# Altium footprint library 简易牛角座.PcbLib: 22 footprints (part 2 of 2)
Each footprint in its own frame and in the unit in brackets; x right, y up, seen from the top. Pads: shape width x height; smd on the part's side, far side on the other; paste and mask are expansions set on the pad; w line width, h text height; cw(c..) or ccw(c..) is an arc to the next point about the centre after c.
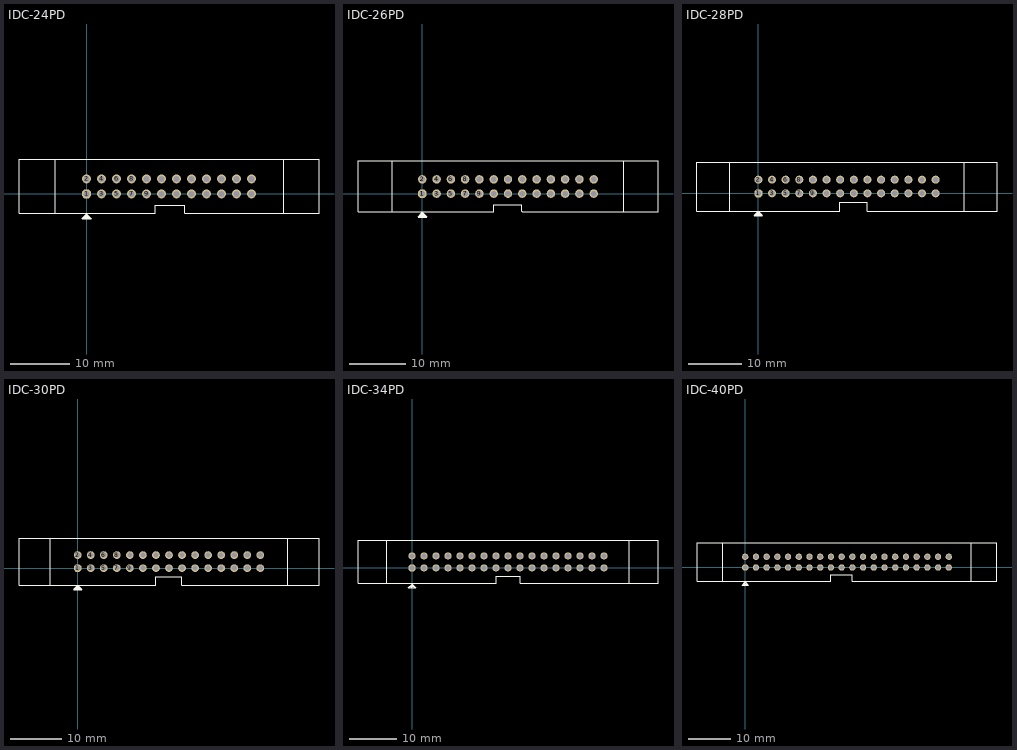
[diagram p1: the footprints below, top view; thin cyan lines are the x and y axes]

## IDC-24PD [mm]
pads (24):
  oct 1.5x1.5 hole 1: 1(0,0)
  round 1.5 hole 1: 2(0,2.54) 3(2.54,0) 4(2.54,2.54) 5(5.08,0) 6(5.08,2.54) 7(7.62,0) 8(7.62,2.54) 9(10.16,0) 10(10.16,2.54) 11(12.7,0) 12(12.7,2.54) 13(15.24,0) 14(15.24,2.54) 15(17.78,0) 16(17.78,2.54) 17(20.32,0) 18(20.32,2.54) 19(22.86,0) 20(22.86,2.54) 21(25.4,0) 22(25.4,2.54) 23(27.94,0) 24(27.94,2.54)
Top Overlay:
  lines w0.15: -5.004,-3.26 -11.43,-3.26 -11.43,5.84 -4.978,5.84 ; 11.623,-3.26 10.26,-3.26 -5.3,-3.26 ; 11.63,-3.267 11.63,-1.967 16.63,-1.967 16.63,-3.26 33.36,-3.26 33.36,5.84 -5.3,5.84 ; 32.918,5.84 39.37,5.84 39.37,-3.26 32.944,-3.26 ; -5.3,-3.26 -5.3,5.84 ; -5.3,-3.26 -5.3,5.84
  lines w0.254: -0.508,-4.191 -0.254,-3.937 ; -0.381,-3.81 0.127,-3.81 0.508,-4.191 ; 0,-3.683 0,-3.429 ; -0.254,-3.937 0,-4.191 0.508,-4.191 ; -0.254,-3.937 0.254,-3.937 0.508,-4.191 ; 0,-3.429 -0.762,-4.191 0.508,-4.191 ; 0,-3.429 0.762,-4.191 0.508,-4.191
Bottom Overlay:
  lines w0.6: -1.041,1.27 28.5,1.27 ; 1.27,-0.813 1.27,3.556 ; 3.81,-0.813 3.81,3.556 ; 6.35,-0.813 6.35,3.556 ; 8.89,-0.813 8.89,3.556 ; 11.43,-0.813 11.43,3.556 ; 13.97,-0.813 13.97,3.556 ; 16.51,-0.813 16.51,3.556 ; 19.05,-0.813 19.05,3.556 ; 21.59,-0.813 21.59,3.556 ; 24.13,-0.813 24.13,3.556 ; 26.67,-0.813 26.67,3.556

## IDC-26PD [mm]
pads (26):
  oct 1.5x1.5 hole 1: 1(0,0)
  round 1.5 hole 1: 2(0,2.54) 3(2.54,0) 4(2.54,2.54) 5(5.08,0) 6(5.08,2.54) 7(7.62,0) 8(7.62,2.54) 9(10.16,0) 10(10.16,2.54) 11(12.7,0) 12(12.7,2.54) 13(15.24,0) 14(15.24,2.54) 15(17.78,0) 16(17.78,2.54) 17(20.32,0) 18(20.32,2.54) 19(22.86,0) 20(22.86,2.54) 21(25.4,0) 22(25.4,2.54) 23(27.94,0) 24(27.94,2.54) 25(30.48,0) 26(30.48,2.54)
Top Overlay:
  lines w0.15: -5.004,-3.26 -11.43,-3.26 -11.43,5.84 -4.978,5.84 ; 35.458,5.84 41.91,5.84 41.91,-3.26 35.484,-3.26 ; -5.3,-3.26 -5.3,5.84 35.8,5.84 35.8,-3.26 17.8,-3.26 17.7,-3.16 17.7,-1.96 12.7,-1.96 12.7,-3.26 -5.3,-3.26
  lines w0.254: -0.508,-4.191 -0.254,-3.937 ; -0.381,-3.81 0.127,-3.81 0.508,-4.191 ; 0,-3.683 0,-3.429 ; -0.254,-3.937 0.254,-3.937 0.508,-4.191 ; -0.254,-3.937 0,-4.191 0.508,-4.191 ; 0,-3.429 0.762,-4.191 0.508,-4.191 ; 0,-3.429 -0.762,-4.191 0.508,-4.191
Bottom Overlay:
  lines w0.6: -1.041,1.27 31,1.27 ; 1.27,-0.813 1.27,3.556 ; 3.81,-0.813 3.81,3.556 ; 6.35,-0.813 6.35,3.556 ; 8.89,-0.813 8.89,3.556 ; 11.43,-0.813 11.43,3.556 ; 13.97,-0.813 13.97,3.556 ; 16.51,-0.813 16.51,3.556 ; 19.05,-0.813 19.05,3.556 ; 21.59,-0.813 21.59,3.556 ; 24.13,-0.813 24.13,3.556 ; 26.67,-0.813 26.67,3.556 ; 29.21,-0.813 29.21,3.556
3D body "IDC-26PD.STEP": height 23.35, standoff -3.15, extent -10.999,-3.039 41.601,5.461

## IDC-28PD [mm]
pads (28):
  oct 1.5x1.5 hole 1: 1(0,0)
  round 1.5 hole 1: 2(0,2.54) 3(2.54,0) 4(2.54,2.54) 5(5.08,0) 6(5.08,2.54) 7(7.62,0) 8(7.62,2.54) 9(10.16,0) 10(10.16,2.54) 11(12.7,0) 12(12.7,2.54) 13(15.24,0) 14(15.24,2.54) 15(17.78,0) 16(17.78,2.54) 17(20.32,0) 18(20.32,2.54) 19(22.86,0) 20(22.86,2.54) 21(25.4,0) 22(25.4,2.54) 23(27.94,0) 24(27.94,2.54) 25(30.48,0) 26(30.48,2.54) 27(33.02,0) 28(33.02,2.54)
Top Overlay:
  lines w0.15: -5.61,-3.3 15.17,-3.3 15.17,-1.69 20.27,-1.69 20.27,-3.3 42.49,-3.3 ; -5.3,-3.3 -5.3,5.8 15.22,5.8 ; -5.004,5.8 -11.43,5.8 -11.43,-3.3 -4.978,-3.3 ; 14.04,5.8 40.9,5.8 ; 37.998,-3.3 44.45,-3.3 44.45,5.8 38.024,5.8 ; 38.36,-3.3 38.36,5.8
  lines w0.254: -0.508,-4.191 -0.254,-3.937 ; -0.381,-3.81 0.127,-3.81 0.508,-4.191 ; 0,-3.683 0,-3.429 ; -0.254,-3.937 0,-4.191 0.508,-4.191 ; -0.254,-3.937 0.254,-3.937 0.508,-4.191 ; 0,-3.429 -0.762,-4.191 0.508,-4.191 ; 0,-3.429 0.762,-4.191 0.508,-4.191
Bottom Overlay:
  lines w0.6: -1.041,1.27 34.163,1.27 ; 1.27,-0.813 1.27,3.556 ; 3.81,-0.813 3.81,3.556 ; 6.35,-0.813 6.35,3.556 ; 8.89,-0.813 8.89,3.556 ; 11.43,-0.813 11.43,3.556 ; 13.97,-0.813 13.97,3.556 ; 16.51,-0.813 16.51,3.556 ; 19.05,-0.813 19.05,3.556 ; 21.59,-0.813 21.59,3.556 ; 24.13,-0.813 24.13,3.556 ; 26.67,-0.813 26.67,3.556 ; 29.21,-0.813 29.21,3.556 ; 31.75,-0.813 31.75,3.556

## IDC-30PD [mm]
pads (30):
  oct 1.5x1.5 hole 1: 1(0,0)
  round 1.5 hole 1: 2(0,2.54) 3(2.54,0) 4(2.54,2.54) 5(5.08,0) 6(5.08,2.54) 7(7.62,0) 8(7.62,2.54) 9(10.16,0) 10(10.16,2.54) 11(12.7,0) 12(12.7,2.54) 13(15.24,0) 14(15.24,2.54) 15(17.78,0) 16(17.78,2.54) 17(20.32,0) 18(20.32,2.54) 19(22.86,0) 20(22.86,2.54) 21(25.4,0) 22(25.4,2.54) 23(27.94,0) 24(27.94,2.54) 25(30.48,0) 26(30.48,2.54) 27(33.02,0) 28(33.02,2.54) 29(35.56,0) 30(35.56,2.54)
Top Overlay:
  lines w0.15: -5.61,-3.3 15.17,-3.3 15.17,-1.69 20.27,-1.69 20.27,-3.3 42.49,-3.3 ; -5.3,-3.3 -5.3,5.8 15.22,5.8 ; -5.004,5.8 -11.43,5.8 -11.43,-3.3 -4.978,-3.3 ; 14.04,5.8 40.9,5.8 40.9,-3.3 ; 40.538,-3.3 46.99,-3.3 46.99,5.8 40.564,5.8
  lines w0.254: -0.508,-4.191 -0.254,-3.937 ; -0.381,-3.81 0.127,-3.81 0.508,-4.191 ; 0,-3.683 0,-3.429 ; -0.254,-3.937 0.254,-3.937 0.508,-4.191 ; -0.254,-3.937 0,-4.191 0.508,-4.191 ; 0,-3.429 0.762,-4.191 0.508,-4.191 ; 0,-3.429 -0.762,-4.191 0.508,-4.191
Bottom Overlay:
  lines w0.6: -1.041,1.27 36,1.27 ; 1.27,-0.813 1.27,3.556 ; 3.81,-0.813 3.81,3.556 ; 6.35,-0.813 6.35,3.556 ; 8.89,-0.813 8.89,3.556 ; 11.43,-0.813 11.43,3.556 ; 13.97,-0.813 13.97,3.556 ; 16.51,-0.813 16.51,3.556 ; 19.05,-0.813 19.05,3.556 ; 21.59,-0.813 21.59,3.556 ; 24.13,-0.813 24.13,3.556 ; 26.67,-0.813 26.67,3.556 ; 29.21,-0.813 29.21,3.556 ; 31.75,-0.813 31.75,3.556 ; 34.29,-0.813 34.29,3.556

## IDC-34PD [mm]
pads (34):
  oct 1.5x1.5 hole 1: 1(0,0)
  round 1.5 hole 1: 2(0,2.54) 3(2.54,0) 4(2.54,2.54) 5(5.08,0) 6(5.08,2.54) 7(7.62,0) 8(7.62,2.54) 9(10.16,0) 10(10.16,2.54) 11(12.7,0) 12(12.7,2.54) 13(15.24,0) 14(15.24,2.54) 15(17.78,0) 16(17.78,2.54) 17(20.32,0) 18(20.32,2.54) 19(22.86,0) 20(22.86,2.54) 21(25.4,0) 22(25.4,2.54) 23(27.94,0) 24(27.94,2.54) 25(30.48,0) 26(30.48,2.54) 27(33.02,0) 28(33.02,2.54) 29(35.56,0) 30(35.56,2.54) 31(38.1,0) 32(38.1,2.54) 33(40.64,0) 34(40.64,2.54)
Top Overlay:
  lines w0.15: -5.004,-3.26 -11.43,-3.26 -11.43,5.84 -4.978,5.84 ; 45.618,5.84 52.07,5.84 52.07,-3.26 45.644,-3.26 ; -5.3,-3.26 17.76,-3.26 17.78,-3.24 17.78,-1.74 22.88,-1.74 22.88,-3.24 22.9,-3.26 45.94,-3.26 45.94,5.84 -5.3,5.84 -5.3,-3.26
  lines w0.254: -0.508,-4.191 -0.254,-3.937 ; -0.381,-3.81 0.127,-3.81 0.508,-4.191 ; 0,-3.683 0,-3.429 ; -0.254,-3.937 0,-4.191 0.508,-4.191 ; -0.254,-3.937 0.254,-3.937 0.508,-4.191 ; 0,-3.429 -0.762,-4.191 0.508,-4.191 ; 0,-3.429 0.762,-4.191 0.508,-4.191
Bottom Overlay:
  lines w0.6: -1.041,1.27 41.47,1.27 ; 1.27,-0.813 1.27,3.556 ; 3.81,-0.813 3.81,3.556 ; 6.35,-0.813 6.35,3.556 ; 8.89,-0.813 8.89,3.556 ; 11.43,-0.813 11.43,3.556 ; 13.97,-0.813 13.97,3.556 ; 16.51,-0.813 16.51,3.556 ; 19.05,-0.813 19.05,3.556 ; 21.59,-0.813 21.59,3.556 ; 24.13,-0.813 24.13,3.556 ; 26.67,-0.813 26.67,3.556 ; 29.21,-0.813 29.21,3.556 ; 31.75,-0.813 31.75,3.556 ; 34.29,-0.813 34.29,3.556 ; 36.83,-0.813 36.83,3.556 ; 39.37,-0.813 39.37,3.556
3D body "idc34pd.STEP": height 1.24, standoff -23.08, extent -15.004,-3.236 55.492,5.664

## IDC-40PD [mm]
pads (40):
  oct 1.5x1.5 hole 1: 1(0,0)
  round 1.5 hole 1: 2(0,2.54) 3(2.54,0) 4(2.54,2.54) 5(5.08,0) 6(5.08,2.54) 7(7.62,0) 8(7.62,2.54) 9(10.16,0) 10(10.16,2.54) 11(12.7,0) 12(12.7,2.54) 13(15.24,0) 14(15.24,2.54) 15(17.78,0) 16(17.78,2.54) 17(20.32,0) 18(20.32,2.54) 19(22.86,0) 20(22.86,2.54) 21(25.4,0) 22(25.4,2.54) 23(27.94,0) 24(27.94,2.54) 25(30.48,0) 26(30.48,2.54) 27(33.02,0) 28(33.02,2.54) 29(35.56,0) 30(35.56,2.54) 31(38.1,0) 32(38.1,2.54) 33(40.64,0) 34(40.64,2.54) 35(43.18,0) 36(43.18,2.54) 37(45.72,0) 38(45.72,2.54) 39(48.26,0) 40(48.26,2.54)
Top Overlay:
  lines w0.15: -5.004,-3.26 -11.43,-3.26 -11.43,5.84 -4.978,5.84 ; 53.238,5.84 59.69,5.84 59.69,-3.26 53.264,-3.26 ; -5.3,-3.26 -5.3,5.84 53.6,5.84 53.6,-3.26 25.4,-3.26 25.4,-1.76 20.3,-1.76 20.3,-3.26 -5.3,-3.26
  lines w0.254: -0.508,-4.191 -0.254,-3.937 ; -0.381,-3.81 0.127,-3.81 0.508,-4.191 ; 0,-3.683 0,-3.429 ; -0.254,-3.937 0.254,-3.937 0.508,-4.191 ; -0.254,-3.937 0,-4.191 0.508,-4.191 ; 0,-3.429 0.762,-4.191 0.508,-4.191 ; 0,-3.429 -0.762,-4.191 0.508,-4.191
Bottom Overlay:
  lines w0.6: -1.041,1.27 48.62,1.27 ; 1.27,-0.813 1.27,3.556 ; 3.81,-0.813 3.81,3.556 ; 6.35,-0.813 6.35,3.556 ; 8.89,-0.813 8.89,3.556 ; 11.43,-0.813 11.43,3.556 ; 13.97,-0.813 13.97,3.556 ; 16.51,-0.813 16.51,3.556 ; 19.05,-0.813 19.05,3.556 ; 21.59,-0.813 21.59,3.556 ; 24.13,-0.813 24.13,3.556 ; 26.67,-0.813 26.67,3.556 ; 29.21,-0.813 29.21,3.556 ; 31.75,-0.813 31.75,3.556 ; 34.29,-0.813 34.29,3.556 ; 36.83,-0.813 36.83,3.556 ; 39.37,-0.813 39.37,3.556 ; 41.91,-0.813 41.91,3.556 ; 44.45,-0.813 44.45,3.556 ; 46.99,-0.838 46.99,3.531
3D body "IDC40DP.STEP": height 23.26, standoff -2, extent -13.07,-2.997 61.889,5.903